# Altium footprint library SSOP-28_150mil.PcbLib: 1 footprints
Each footprint in its own frame and in the unit in brackets; x right, y up, seen from the top. Pads: shape width x height; smd on the part's side, far side on the other; paste and mask are expansions set on the pad; w line width, h text height; cw(c..) or ccw(c..) is an arc to the next point about the centre after c.
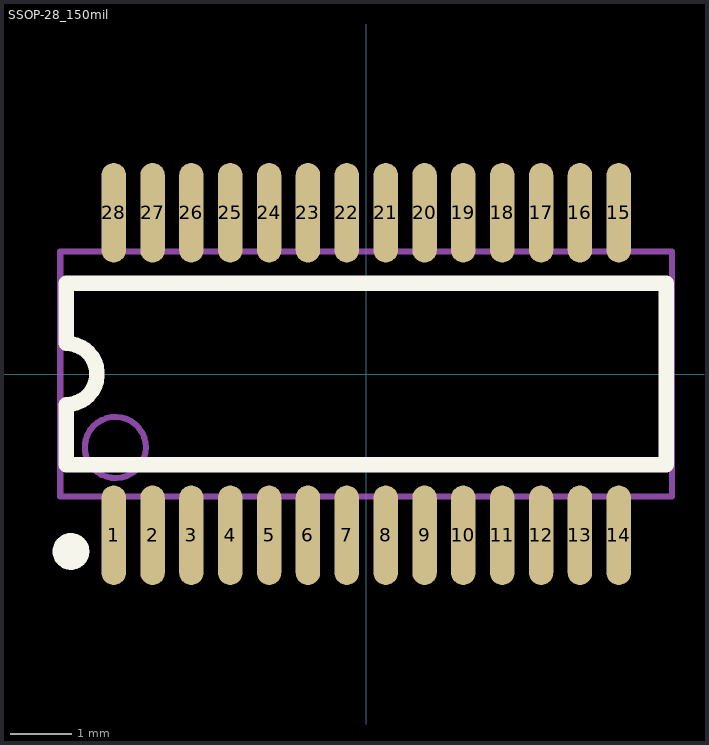
[diagram p0: the footprint, top view; thin cyan lines are the x and y axes]

## SSOP-28_150mil [mm]
pads (28):
  oval 0.4x1.63 smd mask+0.051: 1(-4.127,-2.635) 2(-3.492,-2.635) 3(-2.857,-2.635) 4(-2.222,-2.635) 5(-1.587,-2.635) 6(-0.952,-2.635) 7(-0.317,-2.635) 8(0.318,-2.635) 9(0.953,-2.635) 10(1.588,-2.635) 11(2.223,-2.635) 12(2.858,-2.635) 13(3.493,-2.635) 14(4.128,-2.635) 15(4.128,2.635) 16(3.493,2.635) 17(2.858,2.635) 18(2.223,2.635) 19(1.588,2.635) 20(0.953,2.635) 21(0.318,2.635) 22(-0.317,2.635) 23(-0.952,2.635) 24(-1.587,2.635) 25(-2.222,2.635) 26(-2.857,2.635) 27(-3.492,2.635) 28(-4.127,2.635)
Top Overlay:
  circle w0.3: c-4.825,-2.9 r0.15
  lines w0.254: -4.9,-1.48 4.9,-1.48 4.9,1.48 -4.9,1.48 -4.9,0.5 cw(c-4.9,0) -4.9,-0.5 -4.9,-1.48
Mechanical 13:
  circle w0.1: c-4.1,-1.2 r0.5
  lines w0.1: -5,-2 -5,2 5,2 5,-2 -5,-2